# EAGLE library part STN1110 (library X893)
http://www.scantool.net/scantool/downloads/97/stn1110-ds.pdf
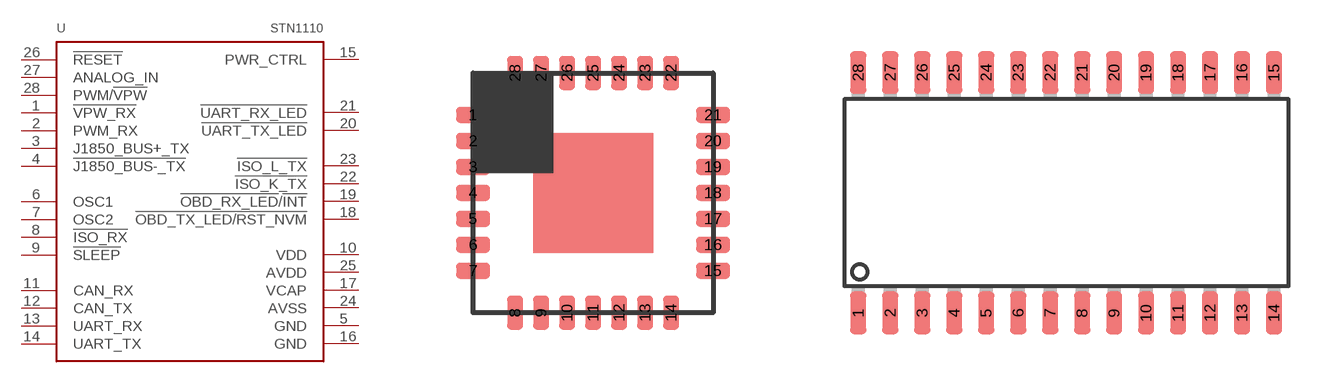
[diagram p120: symbol with the pads of QFN28-6X6; footprints QFN28-6X6, SO28W]

Designator prefix -

## STN1110-I/MM  [QFN28-6X6]
1  !VPW_RX  in
2  PWM_RX  in
3  J1850_BUS+_TX  out
4  !J1850_BUS-_TX  out
5  GND  sup
6  OSC1  in
7  OSC2  out
8  !ISO_RX  in
9  !SLEEP  in
10  VDD  pwr
11  CAN_RX  in
12  CAN_TX  oc
13  UART_RX  in
14  UART_TX  oc
15  PWR_CTRL  oc
16  GND
17  VCAP
18  !OBD_TX_LED/RST_NVM  oc
19  !OBD_RX_LED!/!INT  oc
20  !UART_TX_LED  out
21  !UART_RX_LED  out
22  !ISO_K_TX  out
23  !ISO_L_TX  out
24  AVSS
25  AVDD
26  !RESET  pas
27  ANALOG_IN  pas
28  PWM/!VPW  out

## STN1110-I/SO  [SO28W]
1  !RESET  pas
2  ANALOG_IN  pas
3  PWM/!VPW  out
4  !VPW_RX  in
5  PWM_RX  in
6  J1850_BUS+_TX  out
7  !J1850_BUS-_TX  out
8  GND  sup
9  OSC1  in
10  OSC2  out
11  !ISO_RX  in
12  !SLEEP  in
13  VDD  pwr
14  CAN_RX  in
15  CAN_TX  oc
16  UART_RX  in
17  UART_TX  oc
18  PWR_CTRL  oc
19  GND
20  VCAP
21  !OBD_TX_LED/RST_NVM  oc
22  !OBD_RX_LED!/!INT  oc
23  !UART_TX_LED  out
24  !UART_RX_LED  out
25  !ISO_K_TX  out
26  !ISO_L_TX  out
27  AVSS
28  AVDD

## STN1110-I/MM-NOPAD  [QFN28-6X6-NOPAD]
Pads as for QFN28-6X6

## Footprint QFN28-6X6 (pad centres in mm)
http://ww1.microchip.com/downloads/en/DeviceDoc/39931c.pdf
smd 0.85 x 0.4: 1 -3,1.95; 2 -3,1.3; 3 -3,0.65; 4 -3,0; 5 -3,-0.65; 6 -3,-1.3; 7 -3,-1.95; 15 3,-1.95; 16 3,-1.3; 17 3,-0.65; 18 3,0; 19 3,0.65; 20 3,1.3; 21 3,1.95
smd 0.4 x 0.85: 8 -1.95,-3; 9 -1.3,-3; 10 -0.65,-3; 11 0,-3; 12 0.65,-3; 13 1.3,-3; 14 1.95,-3; 22 1.95,3; 23 1.3,3; 24 0.65,3; 25 0,3; 26 -0.65,3; 27 -1.3,3; 28 -1.95,3

## Footprint SO28W (pad centres in mm)
28-Lead Plastic Small Outline (SO) Wide, 300 mil Body (SOIC) Source: http://ww1.microchip.com/downloads/en/devicedoc/39632c.pdf
smd 0.65 x 1.7: 1 -8.255,-4.78; 2 -6.985,-4.78; 3 -5.715,-4.78; 4 -4.445,-4.78; 5 -3.175,-4.78; 6 -1.905,-4.78; 7 -0.635,-4.78; 8 0.635,-4.78; 9 1.905,-4.78; 10 3.175,-4.78; 11 4.445,-4.78; 12 5.715,-4.78; 13 6.985,-4.78; 14 8.255,-4.78; 15 8.255,4.78; 16 6.985,4.78; 17 5.715,4.78; 18 4.445,4.78; 19 3.175,4.78; 20 1.905,4.78; 21 0.635,4.78; 22 -0.635,4.78; 23 -1.905,4.78; 24 -3.175,4.78; 25 -4.445,4.78; 26 -5.715,4.78; 27 -6.985,4.78; 28 -8.255,4.78

## Footprint QFN28-6X6-NOPAD (pad centres in mm)
http://ww1.microchip.com/downloads/en/DeviceDoc/39931c.pdf
smd 0.85 x 0.4: 1 -3,1.95; 2 -3,1.3; 3 -3,0.65; 4 -3,0; 5 -3,-0.65; 6 -3,-1.3; 7 -3,-1.95; 15 3,-1.95; 16 3,-1.3; 17 3,-0.65; 18 3,0; 19 3,0.65; 20 3,1.3; 21 3,1.95
smd 0.4 x 0.85: 8 -1.95,-3; 9 -1.3,-3; 10 -0.65,-3; 11 0,-3; 12 0.65,-3; 13 1.3,-3; 14 1.95,-3; 22 1.95,3; 23 1.3,3; 24 0.65,3; 25 0,3; 26 -0.65,3; 27 -1.3,3; 28 -1.95,3